# Altium schematic symbol library DB13W3P500M30LF.SchLib: 1 symbol
Pins are listed as number, name and electrical type; pins without a type are passive.

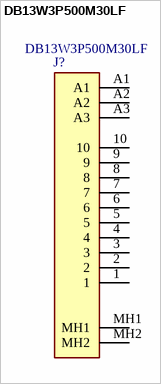
[diagram p0: symbol DB13W3P500M30LF]

## DB13W3P500M30LF
designator J?
D-Sub Power Board Mount Connectors, Input Output Connectors, Mixed Signal and Power 13W3 Pin Right Angle Solder 30A, Europe Standard, 200 Cycles, Front: Without Accessory, Back: Metal Brackets.; Manufacturer_Name: Amphenol Communications Solutions; Geometry.Height: 12.93mm; Mouser Part Number: *; Mouser Price/Stock: *; Manufacturer_Part_Number: DB13W3P500M30LF; Datasheet Link: https://cdn.amphenol-cs.com/media/wysiwyg/files/documentation/datasheet/inputoutput/io_dsub_brochure.pdf
footprint DB13W3P500M30LF
pins: 1, 2, 3, 4, 5, 6, 7, 8, 9, 10, A1, A2, A3, MH1, MH2